# Altium schematic symbol library GC-Schlib1.SchLib: 38 symbols (part 2 of 2)
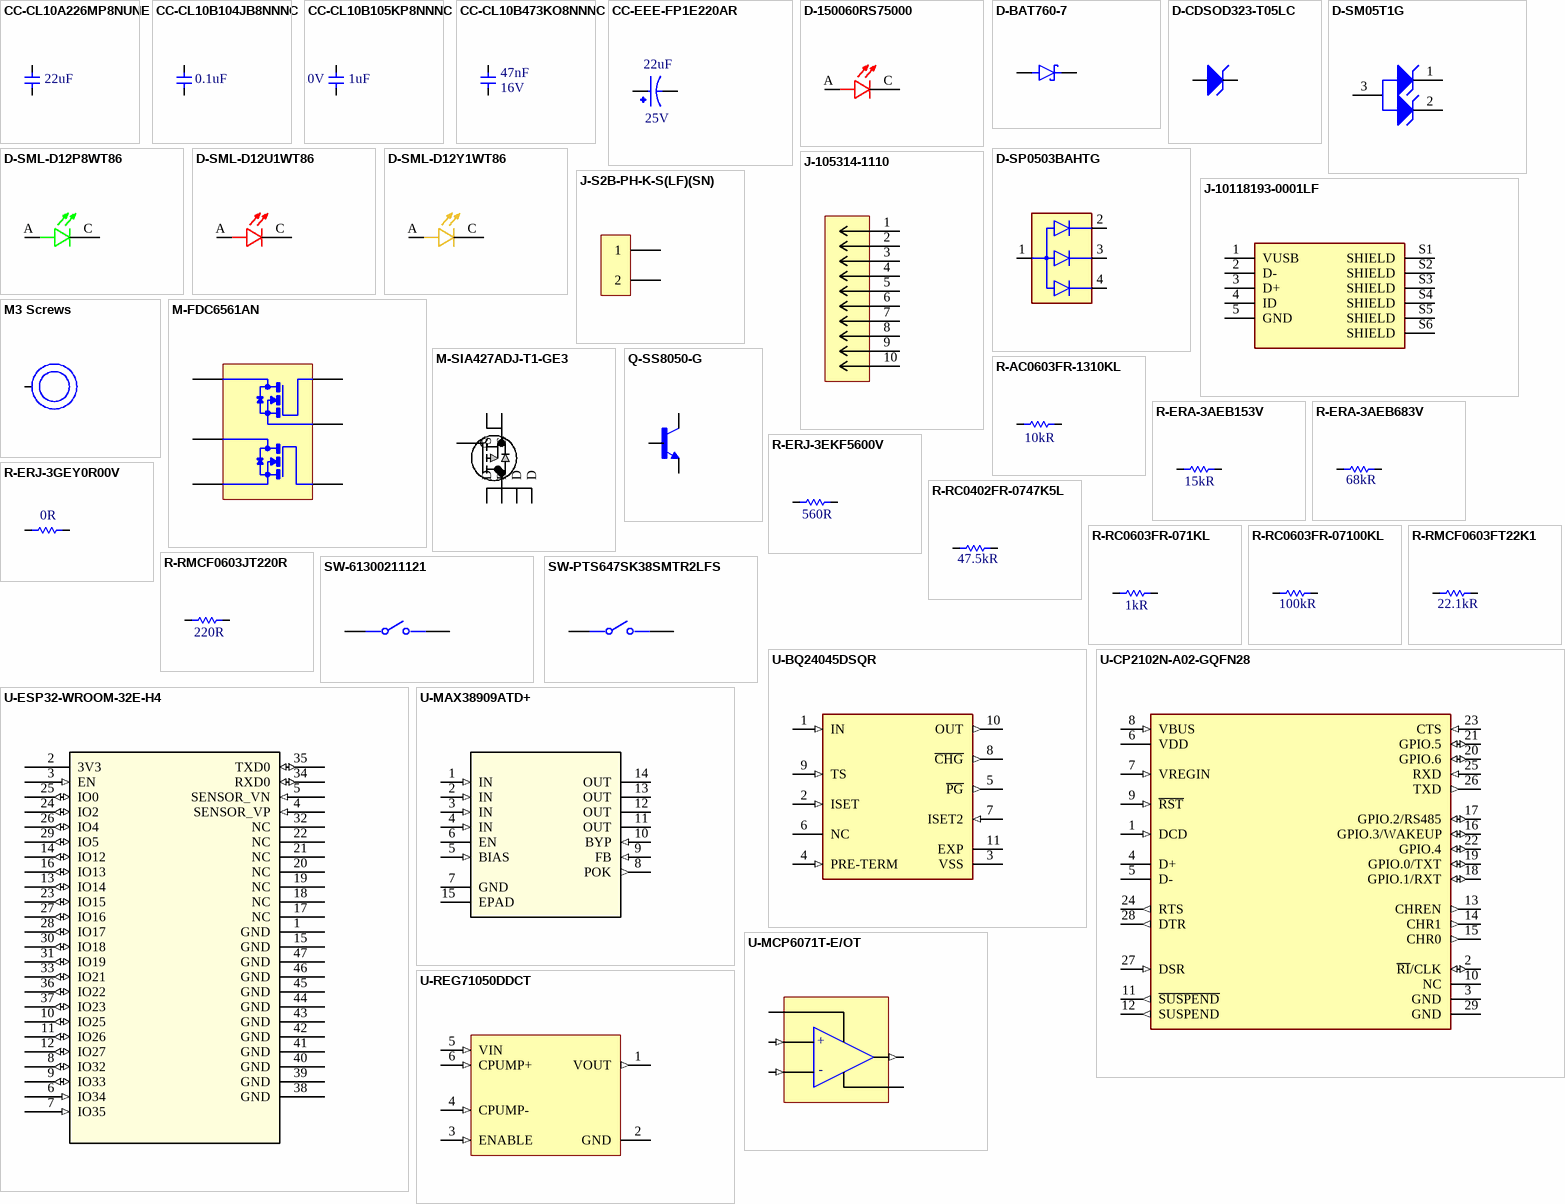
[diagram p1: symbols CC-CL10A226MP8NUNE to U-REG71050DDCT]

## R-ERA-3AEB153V
designator R?, comment Resistance: 15kR  (hidden comment: ERA-3AEB153V)
Fixed Resistor, Thin Film, 0.1W, 15000ohm, 75V, 0.1% +/-Tol, 25ppm/Cel, Surface Mount, 0603; Manufacturer: Panasonic; Rated Power Dissipation (P): 100mW; Rated Temperature: 85°C; Temperature Coefficient: 25ppm/°C; Package Height: 0.45mm; Package Length: 1.6mm; Package Width: 0.8mm; Reference Standard: AEC-Q200; Supplier 1: Mouser; Supplier Part Number 1: 667-ERA-3AEB153V; Manufacturer Part Number: ERA-3AEB153V; RoHS: Yes; Category: Chip SMD Resistors; Stock: 131542; Pricing: 1=0.31, 10=0.139, 50=0.139, 100=0.062, 1000=0.043, 10000=0.038 (USD); Mount: Surface Mount; Number of Pins: 2; Size Code: 0603; Terminal Finish: Nickel; Min Operating Temperature: -55°C; Max Operating Temperature: 155°C; Tolerance: 0.1%; JESD-609 Code: e3; Resistor Type: FIXED RESISTOR; Construction: Rectangular; Package Style: SMTMeter; Packaging: Tape and Reel; Technology: THIN FILM; Termination: Wraparound; Working Voltage: 75V; Reach SVHC Compliant: Yes; RoHS Compliant: Yes; ComponentLink1URL: https://datasheet.ciiva.com:443/pdfs/VipMasterIC/IC/PANA/PANA-S-A0009459258/PANA-S-A0009459258-1.pdf?src-supplier=IHS+Markit; ComponentLink1Description: https://datasheet.ciiva.com:443/pdfs/VipMasterIC/IC/PANA/PANA-S-A0009459258/PANA-S-A0009459258-1.pdf?src-supplier=IHS+Markit; ComponentLink2URL: https://datasheet.ciiva.com/11808/0900766b80fe20f7-11808023.pdf?src-supplier=Rs; ComponentLink2Description: https://datasheet.ciiva.com/11808/0900766b80fe20f7-11808023.pdf?src-supplier=Rs; ComponentLink3URL: https://datasheet.ciiva.com/29183/451305-da-01-en-widerstand-0603-era-29183818.pdf?src-supplier=Conrad; ComponentLink3Description: https://datasheet.ciiva.com/29183/451305-da-01-en-widerstand-0603-era-29183818.pdf?src-supplier=Conrad; ComponentLink4URL: https://datasheet.ciiva.com/46422/485442-46422566.pdf?src-supplier=Element14; ComponentLink4Description: https://datasheet.ciiva.com/46422/485442-46422566.pdf?src-supplier=Element14; ComponentLink5URL: https://datasheet.ciiva.com/6000/485442-6000508.pdf?src-supplier=Farnell; ComponentLink5Description: https://datasheet.ciiva.com/6000/485442-6000508.pdf?src-supplier=Farnell; ComponentLink6URL: https://datasheet.ciiva.com/46422/485442-46422567.pdf?src-supplier=Element14; ComponentLink6Description: https://datasheet.ciiva.com/46422/485442-46422567.pdf?src-supplier=Element14; ComponentLink7URL: https://datasheet.ciiva.com/5734/485442-5734541.pdf?src-supplier=Farnell; ComponentLink7Description: https://datasheet.ciiva.com/5734/485442-5734541.pdf?src-supplier=Farnell; ComponentLink8URL: https://datasheet.ciiva.com/28681/485442-28681528.pdf?src-supplier=Element14; ComponentLink8Description: https://datasheet.ciiva.com/28681/485442-28681528.pdf?src-supplier=Element14; ComponentLink9URL: https://datasheet.ciiva.com/16764/70068849-16764126.pdf?src-supplier=Allied+Electronics; ComponentLink9Description: https://datasheet.ciiva.com/16764/70068849-16764126.pdf?src-supplier=Allied+Electronics; ComponentLink10URL: https://datasheet.ciiva.com/9193/aoa0000ce26-9193070.pdf?src-supplier=Avnet; ComponentLink10Description: https://datasheet.ciiva.com/9193/aoa0000ce26-9193070.pdf?src-supplier=Avnet
footprint FP-1206-L_3_2_0_15-W_1_6-IPC_B
footprint FP-1206-L_3_2_0_15-W_1_6-MFG
footprint FP-1206-L_3_2_0_15-W_1_6-IPC_A
footprint FP-1206-L_3_2_0_15-W_1_6-IPC_C
footprint 0603 - R
pins: 1, 2

## R-ERA-3AEB683V
designator R?, comment Resistance: 68kR  (hidden comment: ERA-3AEB683V)
Fixed Resistor, Thin Film, 0.1W, 68000ohm, 75V, 0.1% +/-Tol, 25ppm/Cel, Surface Mount, 0603; Manufacturer: Panasonic; Rated Power Dissipation (P): 100mW; Rated Temperature: 85°C; Temperature Coefficient: 25ppm/°C; Package Height: 0.45mm; Package Length: 1.6mm; Package Width: 0.8mm; Reference Standard: AEC-Q200; Supplier 1: Mouser; Supplier Part Number 1: 667-ERA-3AEB683V; Manufacturer Part Number: ERA-3AEB683V; RoHS: Yes; Category: Chip SMD Resistors; Stock: 13636; Pricing: 1=0.32, 10=0.139, 50=0.139, 100=0.062, 1000=0.043, 10000=0.034 (USD); Mount: Surface Mount; Number of Pins: 2; Size Code: 0603; Terminal Finish: Nickel; Min Operating Temperature: -55°C; Max Operating Temperature: 155°C; Tolerance: 0.1%; JESD-609 Code: e3; Resistor Type: FIXED RESISTOR; Construction: Rectangular; Package Style: SMTMeter; Packaging: Tape and Reel; Technology: THIN FILM; Termination: Wraparound; Working Voltage: 75V; Reach SVHC Compliant: Yes; RoHS Compliant: Yes; ComponentLink1URL: https://datasheet.ciiva.com:443/pdfs/VipMasterIC/IC/PANA/PANA-S-A0009459258/PANA-S-A0009459258-1.pdf?src-supplier=IHS+Markit; ComponentLink1Description: https://datasheet.ciiva.com:443/pdfs/VipMasterIC/IC/PANA/PANA-S-A0009459258/PANA-S-A0009459258-1.pdf?src-supplier=IHS+Markit; ComponentLink2URL: https://datasheet.ciiva.com/11808/0900766b80fe20f7-11808073.pdf?src-supplier=Rs; ComponentLink2Description: https://datasheet.ciiva.com/11808/0900766b80fe20f7-11808073.pdf?src-supplier=Rs; ComponentLink3URL: https://datasheet.ciiva.com/29183/451591-da-01-en-widerstand-0603-era-29183858.pdf?src-supplier=Conrad; ComponentLink3Description: https://datasheet.ciiva.com/29183/451591-da-01-en-widerstand-0603-era-29183858.pdf?src-supplier=Conrad; ComponentLink4URL: https://datasheet.ciiva.com/43455/485442-43455241.pdf?src-supplier=Farnell; ComponentLink4Description: https://datasheet.ciiva.com/43455/485442-43455241.pdf?src-supplier=Farnell; ComponentLink5URL: https://datasheet.ciiva.com/46443/485442-46443725.pdf?src-supplier=Element14; ComponentLink5Description: https://datasheet.ciiva.com/46443/485442-46443725.pdf?src-supplier=Element14; ComponentLink6URL: https://datasheet.ciiva.com/6138/485442-6138684.pdf?src-supplier=Farnell; ComponentLink6Description: https://datasheet.ciiva.com/6138/485442-6138684.pdf?src-supplier=Farnell; ComponentLink7URL: https://datasheet.ciiva.com/46443/485442-46443726.pdf?src-supplier=Element14; ComponentLink7Description: https://datasheet.ciiva.com/46443/485442-46443726.pdf?src-supplier=Element14; ComponentLink8URL: https://datasheet.ciiva.com/48530/era-eng-tds-48530367.pdf?src-supplier=Distrelec; ComponentLink8Description: https://datasheet.ciiva.com/48530/era-eng-tds-48530367.pdf?src-supplier=Distrelec; ComponentLink9URL: https://datasheet.ciiva.com/48425/era-eng-tds-48425487.pdf?src-supplier=Distrelec; ComponentLink9Description: https://datasheet.ciiva.com/48425/era-eng-tds-48425487.pdf?src-supplier=Distrelec; ComponentLink10URL: https://datasheet.ciiva.com/7886/485442-7886603.pdf?src-supplier=Element14; ComponentLink10Description: https://datasheet.ciiva.com/7886/485442-7886603.pdf?src-supplier=Element14; ComponentLink11URL: https://datasheet.ciiva.com/6138/485442-6138681.pdf?src-supplier=Farnell; ComponentLink11Description: https://datasheet.ciiva.com/6138/485442-6138681.pdf?src-supplier=Farnell; ComponentLink12URL: https://datasheet.ciiva.com/22739/485442-22739292.pdf?src-supplier=Element14; ComponentLink12Description: https://datasheet.ciiva.com/22739/485442-22739292.pdf?src-supplier=Element14; ComponentLink13URL: https://datasheet.ciiva.com/16770/70068849-16770412.pdf?src-supplier=Allied+Electronics; ComponentLink13Description: https://datasheet.ciiva.com/16770/70068849-16770412.pdf?src-supplier=Allied+Electronics; ComponentLink14URL: https://datasheet.ciiva.com/9117/aoa0000ce26-9117752.pdf?src-supplier=Avnet; ComponentLink14Description: https://datasheet.ciiva.com/9117/aoa0000ce26-9117752.pdf?src-supplier=Avnet
footprint FP-1206-L_3_2_0_15-W_1_6-IPC_B
footprint FP-1206-L_3_2_0_15-W_1_6-MFG
footprint FP-1206-L_3_2_0_15-W_1_6-IPC_A
footprint FP-1206-L_3_2_0_15-W_1_6-IPC_C
footprint 0603 - R
pins: 1, 2

## R-ERJ-3EKF5600V
designator R?, comment Resistance: 560R  (hidden comment: ERJ-3EKF5600V)
Fixed Resistor, Metal Glaze/thick Film, 0.1W, 560ohm, 75V, 1% +/-Tol, 100ppm/Cel, Surface Mount, 0603; Manufacturer: Panasonic; Rated Power Dissipation (P): 100mW; Rated Temperature: 70°C; Temperature Coefficient: 100ppm/°C; Package Height: 0.45mm; Package Length: 1.6mm; Package Width: 0.8mm; Reference Standard: AEC-Q200; Supplier 1: Mouser; Supplier Part Number 1: 667-ERJ-3EKF5600V; Manufacturer Part Number: ERJ-3EKF5600V; RoHS: Yes; Category: Chip SMD Resistors; Stock: 63183; Pricing: 1=0.1, 10=0.024, 50=0.024, 100=0.011, 1000=0.008, 10000=0.005 (USD); Mount: Surface Mount; Number of Pins: 2; Package Shape: Rectangular; Size Code: 0603; Terminal Finish: Nickel; Min Operating Temperature: -55°C; Max Operating Temperature: 155°C; Tolerance: 1%; JESD-609 Code: e3; Resistor Type: FIXED RESISTOR; Construction: Rectangular; Package Style: SMTMeter; Packaging: Tape and Reel; Technology: METAL GLAZE/THICK FILM; Termination: Wraparound; Working Voltage: 75V; Reach SVHC Compliant: Yes; RoHS Compliant: Yes; ComponentLink1URL: https://datasheet.ciiva.com:443/pdfs/VipMasterIC/IC/PANA/PANA-S-A0009889626/PANA-S-A0009889626-1.pdf?src-supplier=IHS+Markit; ComponentLink1Description: https://datasheet.ciiva.com:443/pdfs/VipMasterIC/IC/PANA/PANA-S-A0009889626/PANA-S-A0009889626-1.pdf?src-supplier=IHS+Markit; ComponentLink2URL: https://datasheet.ciiva.com/3883/3984280s8821682n1386-3883650.pdf?src-supplier=Arrow+Electronics; ComponentLink2Description: https://datasheet.ciiva.com/3883/3984280s8821682n1386-3883650.pdf?src-supplier=Arrow+Electronics; ComponentLink3URL: https://datasheet.ciiva.com/5860/aoa0000ce2-5860665.pdf?src-supplier=Farnell; ComponentLink3Description: https://datasheet.ciiva.com/5860/aoa0000ce2-5860665.pdf?src-supplier=Farnell; ComponentLink4URL: https://datasheet.ciiva.com/7909/aoa0000ce2-7909198.pdf?src-supplier=Element14; ComponentLink4Description: https://datasheet.ciiva.com/7909/aoa0000ce2-7909198.pdf?src-supplier=Element14; ComponentLink5URL: https://datasheet.ciiva.com/46381/1678782-46381547.pdf?src-supplier=Element14; ComponentLink5Description: https://datasheet.ciiva.com/46381/1678782-46381547.pdf?src-supplier=Element14; ComponentLink6URL: https://datasheet.ciiva.com/22674/1678782-22674427.pdf?src-supplier=Element14; ComponentLink6Description: https://datasheet.ciiva.com/22674/1678782-22674427.pdf?src-supplier=Element14; ComponentLink7URL: https://datasheet.ciiva.com/22737/426256-22737578.pdf?src-supplier=Element14; ComponentLink7Description: https://datasheet.ciiva.com/22737/426256-22737578.pdf?src-supplier=Element14; ComponentLink8URL: https://datasheet.ciiva.com/28590/1678782-28590766.pdf?src-supplier=Element14; ComponentLink8Description: https://datasheet.ciiva.com/28590/1678782-28590766.pdf?src-supplier=Element14; ComponentLink9URL: https://datasheet.ciiva.com/46381/1678782-46381548.pdf?src-supplier=Element14; ComponentLink9Description: https://datasheet.ciiva.com/46381/1678782-46381548.pdf?src-supplier=Element14; ComponentLink10URL: https://datasheet.ciiva.com/24124/aoa0000ce2-24124277.pdf?src-supplier=Mouser; ComponentLink10Description: https://datasheet.ciiva.com/24124/aoa0000ce2-24124277.pdf?src-supplier=Mouser; ComponentLink11URL: https://datasheet.ciiva.com/16763/70260748-16763150.pdf?src-supplier=Allied+Electronics; ComponentLink11Description: https://datasheet.ciiva.com/16763/70260748-16763150.pdf?src-supplier=Allied+Electronics; ComponentLink12URL: https://datasheet.ciiva.com/16781/70260748-16781128.pdf?src-supplier=Allied+Electronics; ComponentLink12Description: https://datasheet.ciiva.com/16781/70260748-16781128.pdf?src-supplier=Allied+Electronics; ComponentLink13URL: https://datasheet.ciiva.com/9117/aoa0000ce2-9117192.pdf?src-supplier=Avnet; ComponentLink13Description: https://datasheet.ciiva.com/9117/aoa0000ce2-9117192.pdf?src-supplier=Avnet
footprint FP-1206-L_3_2_0_15-W_1_6-IPC_B
footprint FP-1206-L_3_2_0_15-W_1_6-MFG
footprint FP-1206-L_3_2_0_15-W_1_6-IPC_A
footprint FP-1206-L_3_2_0_15-W_1_6-IPC_C
footprint 0603 - R
pins: 1, 2

## R-ERJ-3GEY0R00V
designator R?, comment Resistance: 0R  (hidden comment: ERJ-3GEY0R00V)
Fixed Resistor, Metal Glaze/thick Film, 0.1W, 0ohm, Surface Mount, 0603; Manufacturer: Panasonic; Rated Power Dissipation (P): 100mW; Rated Temperature: 70°C; Package Height: 0.45mm; Package Length: 1.6mm; Package Width: 0.8mm; Reference Standard: AEC-Q200; Supplier 1: Mouser; Supplier Part Number 1: 667-ERJ-3GEY0R00V; Manufacturer Part Number: ERJ-3GEY0R00V; RoHS: Yes; Category: Chip SMD Resistors; Stock: 7345218; Pricing: 1=0.1, 10=0.021, 50=0.021, 100=0.01, 1000=0.007, 10000=0.004 (USD); Mount: Surface Mount; Number of Pins: 2; Package Shape: Rectangular; Size Code: 0603; Terminal Finish: Nickel; Min Operating Temperature: -55°C; Max Operating Temperature: 155°C; JESD-609 Code: e3; Resistor Type: FIXED RESISTOR; Construction: Rectangular; Package Style: SMTMeter; Packaging: Tape and Reel; Technology: METAL GLAZE/THICK FILM; Termination: Wraparound; Reach SVHC Compliant: Yes; RoHS Compliant: Yes; ComponentLink1URL: https://datasheet.ciiva.com:443/pdfs/VipMasterIC/IC/PANA/PANA-S-A0009459603/PANA-S-A0009459603-1.pdf?src-supplier=IHS+Markit; ComponentLink1Description: https://datasheet.ciiva.com:443/pdfs/VipMasterIC/IC/PANA/PANA-S-A0009459603/PANA-S-A0009459603-1.pdf?src-supplier=IHS+Markit; ComponentLink2URL: https://datasheet.ciiva.com/27055/1935748-27055113.pdf?src-supplier=Jameco; ComponentLink2Description: https://datasheet.ciiva.com/27055/1935748-27055113.pdf?src-supplier=Jameco; ComponentLink3URL: https://datasheet.ciiva.com/11808/0900766b80f806dd-11808207.pdf?src-supplier=Rs; ComponentLink3Description: https://datasheet.ciiva.com/11808/0900766b80f806dd-11808207.pdf?src-supplier=Rs; ComponentLink4URL: https://datasheet.ciiva.com/48532/aoa0000ce1-48532165.pdf?src-supplier=Avnet; ComponentLink4Description: https://datasheet.ciiva.com/48532/aoa0000ce1-48532165.pdf?src-supplier=Avnet; ComponentLink5URL: https://datasheet.ciiva.com/43460/1678796-43460647.pdf?src-supplier=Farnell; ComponentLink5Description: https://datasheet.ciiva.com/43460/1678796-43460647.pdf?src-supplier=Farnell; ComponentLink6URL: https://datasheet.ciiva.com/5959/1678796-5959707.pdf?src-supplier=Farnell; ComponentLink6Description: https://datasheet.ciiva.com/5959/1678796-5959707.pdf?src-supplier=Farnell; ComponentLink7URL: https://datasheet.ciiva.com/46377/1678796-46377868.pdf?src-supplier=Element14; ComponentLink7Description: https://datasheet.ciiva.com/46377/1678796-46377868.pdf?src-supplier=Element14; ComponentLink8URL: https://datasheet.ciiva.com/28695/1678796-28695833.pdf?src-supplier=Element14; ComponentLink8Description: https://datasheet.ciiva.com/28695/1678796-28695833.pdf?src-supplier=Element14; ComponentLink9URL: https://datasheet.ciiva.com/16758/70255313-16758527.pdf?src-supplier=Allied+Electronics; ComponentLink9Description: https://datasheet.ciiva.com/16758/70255313-16758527.pdf?src-supplier=Allied+Electronics; ComponentLink10URL: https://datasheet.ciiva.com/9198/aoa0000ce1-9198975.pdf?src-supplier=Avnet; ComponentLink10Description: https://datasheet.ciiva.com/9198/aoa0000ce1-9198975.pdf?src-supplier=Avnet; ComponentLink11URL: https://datasheet.ciiva.com/16834/aoa0000ce1-16834828.pdf?src-supplier=Future+Electronics; ComponentLink11Description: https://datasheet.ciiva.com/16834/aoa0000ce1-16834828.pdf?src-supplier=Future+Electronics; ComponentLink12URL: https://datasheet.ciiva.com/30199/4aoa0000ce1-30199822.pdf?src-supplier=Onlinecomponents.com; ComponentLink12Description: https://datasheet.ciiva.com/30199/4aoa0000ce1-30199822.pdf?src-supplier=Onlinecomponents.com
footprint FP-1206-L_3_2_0_15-W_1_6-IPC_B
footprint FP-1206-L_3_2_0_15-W_1_6-MFG
footprint FP-1206-L_3_2_0_15-W_1_6-IPC_A
footprint FP-1206-L_3_2_0_15-W_1_6-IPC_C
footprint 0603 - R
pins: 1, 2

## R-RC0402FR-0747K5L
designator R?, comment Resistance: 47.5kR  (hidden comment: RC0402FR-0747K5L)
Fixed Resistor, Metal Glaze/thick Film, 0.0625W, 47500ohm, 50V, 1% +/-Tol, 100ppm/Cel, Surface Mount, 0402; Manufacturer: Yageo; Additional Feature: LASER TRIMMABLE; Rated Power Dissipation (P): 62.5mW; Rated Temperature: 70°C; Temperature Coefficient: 100ppm/°C; Package Height: 0.35mm; Package Length: 1mm; Package Width: 0.5mm; Supplier 1: Future Electronics; Supplier Part Number 1: 1462183; Manufacturer Part Number: RC0402FR-0747K5L; RoHS: Yes; Category: Chip SMD Resistors; Stock: 1410000; Pricing: 10000=0.0012, 100000=0.0011, 300000=0.001, 750000=0.001, 2000000=0.0009 (USD); Mount: Surface Mount; Number of Pins: 2; Package Shape: Rectangular; Size Code: 0402; Terminal Finish: Nickel; Min Operating Temperature: -55°C; Max Operating Temperature: 155°C; Tolerance: 1%; JESD-609 Code: e3; Resistor Type: FIXED RESISTOR; Construction: Chip; Package Style: SMTMeter; Packaging: Tape and Reel; Technology: METAL GLAZE/THICK FILM; Termination: Wraparound; Working Voltage: 50V; Reach SVHC Compliant: Yes; RoHS Compliant: Yes; ComponentLink1URL: https://datasheet.ciiva.com:443/pdfs/VipMasterIC/IC/YAGO/YAGO-S-A0008145938/YAGO-S-A0008145938-1.pdf?src-supplier=IHS+Markit; ComponentLink1Description: https://datasheet.ciiva.com:443/pdfs/VipMasterIC/IC/YAGO/YAGO-S-A0008145938/YAGO-S-A0008145938-1.pdf?src-supplier=IHS+Markit; ComponentLink2URL: https://datasheet.ciiva.com/46394/1018594-46394942.pdf?src-supplier=Element14; ComponentLink2Description: https://datasheet.ciiva.com/46394/1018594-46394942.pdf?src-supplier=Element14; ComponentLink3URL: https://datasheet.ciiva.com/12667/pyu-rc0402-51-rohs-l-6-r-12667103.pdf?src-supplier=Mouser; ComponentLink3Description: https://datasheet.ciiva.com/12667/pyu-rc0402-51-rohs-l-6-r-12667103.pdf?src-supplier=Mouser; ComponentLink4URL: https://datasheet.ciiva.com/16746/pyu-rc0402-51-rohs-l-6-r-16746316.pdf?src-supplier=Future+Electronics; ComponentLink4Description: https://datasheet.ciiva.com/16746/pyu-rc0402-51-rohs-l-6-r-16746316.pdf?src-supplier=Future+Electronics
footprint FP-1206-L_3_2_0_15-W_1_6-IPC_B
footprint FP-1206-L_3_2_0_15-W_1_6-MFG
footprint FP-1206-L_3_2_0_15-W_1_6-IPC_A
footprint FP-1206-L_3_2_0_15-W_1_6-IPC_C
footprint 0603 - R
pins: 1, 2

## R-RC0603FR-071KL
designator R?, comment Resistance: 1kR  (hidden comment: RC0603FR-071KL)
Fixed Resistor, Metal Glaze/thick Film, 0.1W, 1000ohm, 75V, 1% +/-Tol, 100ppm/Cel, Surface Mount, 0603; Manufacturer: Yageo; Additional Feature: LASER TRIMMABLE; Rated Power Dissipation (P): 100mW; Rated Temperature: 70°C; Temperature Coefficient: 100ppm/°C; Package Height: 0.45mm; Package Length: 1.6mm; Package Width: 0.8mm; Supplier 1: Future Electronics; Supplier Part Number 1: 4016291; Manufacturer Part Number: RC0603FR-071KL; RoHS: Yes; Category: Chip SMD Resistors; Stock: 4965000; Pricing: 5000=0.0015, 75000=0.0015, 250000=0.0014, 750000=0.0013, 2500000=0.0012 (USD); Mount: Surface Mount; Number of Pins: 2; Package Shape: Rectangular; Size Code: 0603; Terminal Finish: Nickel; Min Operating Temperature: -55°C; Max Operating Temperature: 155°C; Tolerance: 1%; JESD-609 Code: e3; Resistor Type: FIXED RESISTOR; Construction: Chip; Package Style: SMTMeter; Packaging: Tape and Reel; Technology: METAL GLAZE/THICK FILM; Termination: Wraparound; Working Voltage: 75V; Reach SVHC Compliant: Yes; RoHS Compliant: Yes; ComponentLink1URL: https://datasheet.ciiva.com:443/pdfs/VipMasterIC/IC/YAGO/YAGO-S-A0008145938/YAGO-S-A0008145938-1.pdf?src-supplier=IHS+Markit; ComponentLink1Description: https://datasheet.ciiva.com:443/pdfs/VipMasterIC/IC/YAGO/YAGO-S-A0008145938/YAGO-S-A0008145938-1.pdf?src-supplier=IHS+Markit; ComponentLink2URL: https://datasheet.ciiva.com/11808/0900766b80f96399-11808081.pdf?src-supplier=Rs; ComponentLink2Description: https://datasheet.ciiva.com/11808/0900766b80f96399-11808081.pdf?src-supplier=Rs; ComponentLink3URL: https://datasheet.ciiva.com/7746/1686128-7746280.pdf?src-supplier=Element14; ComponentLink3Description: https://datasheet.ciiva.com/7746/1686128-7746280.pdf?src-supplier=Element14; ComponentLink4URL: https://datasheet.ciiva.com/7660/1868787-7660790.pdf?src-supplier=Element14; ComponentLink4Description: https://datasheet.ciiva.com/7660/1868787-7660790.pdf?src-supplier=Element14; ComponentLink5URL: https://datasheet.ciiva.com/7983/443971-7983613.pdf?src-supplier=Element14; ComponentLink5Description: https://datasheet.ciiva.com/7983/443971-7983613.pdf?src-supplier=Element14; ComponentLink6URL: https://datasheet.ciiva.com/7746/1738695-7746281.pdf?src-supplier=Element14; ComponentLink6Description: https://datasheet.ciiva.com/7746/1738695-7746281.pdf?src-supplier=Element14; ComponentLink7URL: https://datasheet.ciiva.com/7746/1738695-7746279.pdf?src-supplier=Element14; ComponentLink7Description: https://datasheet.ciiva.com/7746/1738695-7746279.pdf?src-supplier=Element14; ComponentLink8URL: https://datasheet.ciiva.com/8896/pyu-rc0603-51-rohs-l-4-8896106.pdf?src-supplier=Avnet; ComponentLink8Description: https://datasheet.ciiva.com/8896/pyu-rc0603-51-rohs-l-4-8896106.pdf?src-supplier=Avnet; ComponentLink9URL: https://datasheet.ciiva.com/15189/getdatasheetpartid-404327-15189644.pdf?src-supplier=Verical; ComponentLink9Description: https://datasheet.ciiva.com/15189/getdatasheetpartid-404327-15189644.pdf?src-supplier=Verical
footprint 0603 - R
pins: 1, 2

## R-RC0603FR-07100KL
designator R?, comment Resistance: 100kR  (hidden comment: RC0603FR-07100KL)
Fixed Resistor, Metal Glaze/thick Film, 0.1W, 100000ohm, 75V, 1% +/-Tol, 100ppm/Cel, Surface Mount, 0603; Manufacturer: Yageo; Additional Feature: LASER TRIMMABLE; Rated Power Dissipation (P): 100mW; Rated Temperature: 70°C; Temperature Coefficient: 100ppm/°C; Package Height: 0.45mm; Package Length: 1.6mm; Package Width: 0.8mm; Supplier 1: Future Electronics; Supplier Part Number 1: 3697448; Manufacturer Part Number: RC0603FR-07100KL; RoHS: Yes; Category: Chip SMD Resistors; Stock: 10630000; Pricing: 5000=0.0015, 75000=0.0015, 250000=0.0014, 750000=0.0013, 2500000=0.0012 (USD); Mount: Surface Mount; Number of Pins: 2; Package Shape: Rectangular; Size Code: 0603; Terminal Finish: Nickel; Min Operating Temperature: -55°C; Max Operating Temperature: 155°C; Tolerance: 1%; JESD-609 Code: e3; Resistor Type: FIXED RESISTOR; Construction: Chip; Package Style: SMTMeter; Packaging: Tape and Reel; Technology: METAL GLAZE/THICK FILM; Termination: Wraparound; Working Voltage: 75V; Reach SVHC Compliant: Yes; RoHS Compliant: Yes; ComponentLink1URL: https://datasheet.ciiva.com:443/pdfs/VipMasterIC/IC/YAGO/YAGO-S-A0008145938/YAGO-S-A0008145938-1.pdf?src-supplier=IHS+Markit; ComponentLink1Description: https://datasheet.ciiva.com:443/pdfs/VipMasterIC/IC/YAGO/YAGO-S-A0008145938/YAGO-S-A0008145938-1.pdf?src-supplier=IHS+Markit; ComponentLink2URL: https://datasheet.ciiva.com/11808/0900766b80f96399-11808107.pdf?src-supplier=Rs; ComponentLink2Description: https://datasheet.ciiva.com/11808/0900766b80f96399-11808107.pdf?src-supplier=Rs; ComponentLink3URL: https://datasheet.ciiva.com/7983/443971-7983593.pdf?src-supplier=Element14; ComponentLink3Description: https://datasheet.ciiva.com/7983/443971-7983593.pdf?src-supplier=Element14; ComponentLink4URL: https://datasheet.ciiva.com/22747/443971-22747516.pdf?src-supplier=Element14; ComponentLink4Description: https://datasheet.ciiva.com/22747/443971-22747516.pdf?src-supplier=Element14; ComponentLink5URL: https://datasheet.ciiva.com/46440/1868787-46440889.pdf?src-supplier=Element14; ComponentLink5Description: https://datasheet.ciiva.com/46440/1868787-46440889.pdf?src-supplier=Element14; ComponentLink6URL: https://datasheet.ciiva.com/7746/1738695-7746235.pdf?src-supplier=Element14; ComponentLink6Description: https://datasheet.ciiva.com/7746/1738695-7746235.pdf?src-supplier=Element14; ComponentLink7URL: https://datasheet.ciiva.com/7746/1738695-7746234.pdf?src-supplier=Element14; ComponentLink7Description: https://datasheet.ciiva.com/7746/1738695-7746234.pdf?src-supplier=Element14
footprint FP-1206-L_3_2_0_15-W_1_6-IPC_B
footprint FP-1206-L_3_2_0_15-W_1_6-MFG
footprint FP-1206-L_3_2_0_15-W_1_6-IPC_A
footprint FP-1206-L_3_2_0_15-W_1_6-IPC_C
footprint 0603 - R
pins: 1, 2

## R-RMCF0603FT22K1
designator R?, comment Resistance: 22.1kR  (hidden comment: RMCF0603FT22K1)
Fixed Resistor, Metal Glaze/thick Film, 0.1W, 22100ohm, 75V, 1% +/-Tol, 100ppm/Cel, Surface Mount, 0603; Manufacturer: Stackpole Electronics; Rated Power Dissipation (P): 100mW; Rated Temperature: 70°C; Temperature Coefficient: 100ppm/°C; Package Height: 0.45mm; Package Length: 1.55mm; Package Width: 0.8mm; Reference Standard: AEC-Q200; Supplier 1: Digikey; Supplier Part Number 1: RMCF0603FT22K1CT-ND; Manufacturer Part Number: RMCF0603FT22K1; RoHS: Yes; Category: Chip SMD Resistors; Stock: 1223163; Pricing: 1=0.1, 10=0.015, 50=0.009, 100=0.0075, 500=0.00498, 1000=0.00425 (USD); Mount: Surface Mount; Number of Pins: 2; Package Shape: Rectangular; Size Code: 0603; Terminal Finish: Nickel; Min Operating Temperature: -55°C; Max Operating Temperature: 155°C; Tolerance: 1%; JESD-609 Code: e3; Resistor Type: FIXED RESISTOR; Construction: Rectangular; Package Style: SMTMeter; Packaging: Tape and Reel; Technology: METAL GLAZE/THICK FILM; Termination: Wraparound; Working Voltage: 75V; Reach SVHC Compliant: Yes; RoHS Compliant: Yes; ComponentLink1URL: https://datasheet.ciiva.com:443/pdfs/VipMasterIC/IC/SEIE/SEIE-S-A0009541969/SEIE-S-A0009541969-1.pdf?src-supplier=IHS+Markit; ComponentLink1Description: https://datasheet.ciiva.com:443/pdfs/VipMasterIC/IC/SEIE/SEIE-S-A0009541969/SEIE-S-A0009541969-1.pdf?src-supplier=IHS+Markit; ComponentLink2URL: http://components.arrow.com/part/dataview/40960961S7171997N1174?src-supplier=Arrow+Electronics; ComponentLink2Description: http://components.arrow.com/part/dataview/40960961S7171997N1174?src-supplier=Arrow+Electronics; ComponentLink3URL: https://datasheet.octopart.com/RMCF0603FT22K1-Stackpole-Electronics-datasheet-11547379.pdf?src-supplier=Future+Electronics; ComponentLink3Description: https://datasheet.octopart.com/RMCF0603FT22K1-Stackpole-Electronics-datasheet-11547379.pdf?src-supplier=Future+Electronics; ComponentLink4URL: https://www.seielect.com/catalog/SEI-RMCF_RMCP.pdf?src-supplier=Avnet; ComponentLink4Description: https://www.seielect.com/catalog/SEI-RMCF_RMCP.pdf?src-supplier=Avnet; ComponentLink5URL: http://www.seielect.com/Catalog/SEI-RMC.pdf?src-supplier=Future+Electronics; ComponentLink5Description: http://www.seielect.com/Catalog/SEI-RMC.pdf?src-supplier=Future+Electronics; ComponentLink6URL: https://www.verical.com/server-webapp/html/getDatasheet?partID=375344&src-supplier=Verical; ComponentLink6Description: https://www.verical.com/server-webapp/html/getDatasheet?partID=375344&src-supplier=Verical; ComponentLink7URL: https://www.seielect.com/catalog/SEI-Packaging.pdf?src-supplier=Digikey; ComponentLink7Description: https://www.seielect.com/catalog/SEI-Packaging.pdf?src-supplier=Digikey; ComponentLink8URL: https://www.seielect.com/Catalog/SEI-RMCF_RMCP.pdf?src-supplier=Digikey; ComponentLink8Description: https://www.seielect.com/Catalog/SEI-RMCF_RMCP.pdf?src-supplier=Digikey
footprint FP-1206-L_3_2_0_15-W_1_6-IPC_B
footprint FP-1206-L_3_2_0_15-W_1_6-MFG
footprint FP-1206-L_3_2_0_15-W_1_6-IPC_A
footprint FP-1206-L_3_2_0_15-W_1_6-IPC_C
footprint 0603 - R
pins: 1, 2

## R-RMCF0603JT220R
designator R?  Resistance: 220R  (hidden comment: R-RMCF0603JT220R)
Fixed Resistor, Metal Glaze/thick Film, 0.1W, 220ohm, 75V, 5% +/-Tol, 200ppm/Cel, Surface Mount, 0603; Manufacturer: Stackpole Electronics; Rated Power Dissipation (P): 100mW; Rated Temperature: 70°C; Temperature Coefficient: 200ppm/°C; Package Height: 0.45mm; Package Length: 1.55mm; Package Width: 0.8mm; Reference Standard: AEC-Q200; Supplier 1: Avnet; Supplier Part Number 1: RMCF0603JT220R; Manufacturer Part Number: RMCF0603JT220R; RoHS: Yes; Category: Chip SMD Resistors; Stock: 5000; Pricing: 5000=0.00126, 10000=0.00124, 20000=0.00122, 30000=0.00121, 40000=0.00119, 50000=0.00117, 500000=0.00115 (USD); Mount: Surface Mount; Number of Pins: 2; Package Shape: Rectangular; Size Code: 0603; Terminal Finish: Nickel; Min Operating Temperature: -55°C; Max Operating Temperature: 155°C; Tolerance: 5%; JESD-609 Code: e3; Resistor Type: FIXED RESISTOR; Construction: Rectangular; Package Style: SMTMeter; Packaging: Tape and Reel; Technology: METAL GLAZE/THICK FILM; Termination: Wraparound; Working Voltage: 75V; Reach SVHC Compliant: Yes; RoHS Compliant: Yes; ComponentLink1URL: https://datasheet.ciiva.com:443/pdfs/VipMasterIC/IC/SEIE/SEIE-S-A0009541969/SEIE-S-A0009541969-1.pdf?src-supplier=IHS+Markit; ComponentLink1Description: https://datasheet.ciiva.com:443/pdfs/VipMasterIC/IC/SEIE/SEIE-S-A0009541969/SEIE-S-A0009541969-1.pdf?src-supplier=IHS+Markit; ComponentLink2URL: https://datasheet.ciiva.com/26835/getdatasheetpartid-362043-26835658.pdf?src-supplier=Verical; ComponentLink2Description: https://datasheet.ciiva.com/26835/getdatasheetpartid-362043-26835658.pdf?src-supplier=Verical
footprint FP-1206-L_3_2_0_15-W_1_6-IPC_B
footprint FP-1206-L_3_2_0_15-W_1_6-MFG
footprint FP-1206-L_3_2_0_15-W_1_6-IPC_A
footprint FP-1206-L_3_2_0_15-W_1_6-IPC_C
footprint 0603 - R
pins: 1, 2

## SW-61300211121
designator SW?  (value not drawn)
Board Connector, 2 Contact(s), 1 Row(s), Male, Straight, 0.1 inch Pitch, Solder Terminal, Locking, Black Insulator, Plug; Manufacturer: Wurth Electronics; Option: General Purpose; Contact Pattern: RECTANGULAR; Contact Resistance: 20mR; Contact Style: SQ PIN-SKT; Dielectric Withstanding Voltage (AC): 500V; Filter Feature: No; Insulation Resistance: 1GR; Number Of Connectors: 1; Rated Current (Signal): 3A; Number of Contacts: 2; Body Length: 0.2inch; Reference Standard: UL; Reliability: COMMERCIAL; Supplier 1: Newark; Supplier Part Number 1: 20X0948; Manufacturer Part Number: 61300211121; RoHS: Yes; Category: Headers and Wire Housings; Stock: 158075; Pricing: 100=0.074 (USD); Mount: Board; Contact Material: Copper Alloy; Contact Finish - Mating: GOLD; Contact Finish - Termination: Gold (Au) - with Nickel (Ni) barrier; Insulation Color: Black; Insulation Material: Polybutylene; Min Operating Temperature: -40°C; Max Operating Temperature: 125°C; Connector Type: BOARD CONNECTOR; JESD-609 Code: e4; Body/Shell Style: PLUG; Contact Gender: Male; Mixed Contacts: No; Mounting Style: STRAIGHT; Number of Rows Loaded: 1; PCB Contact Pattern: RECTANGULAR; Termination: Solder; Body Breadth: 0.1inch; Body Depth: 0.1inch; Mating Contact Pitch: 0.1inch; Mounting Option 1: LOCKING; Terminal Length: 0.118inch; Terminal Pitch: 2.54mm; Flammability Rating: UL94 V-0; Reach SVHC Compliant: Yes; RoHS Compliant: Yes; DIN Conformance: No; IEC Conformance: No; MIL Conformance: No; ComponentLink1URL: https://datasheet.ciiva.com:443/pdfs/VipMasterIC/IC/MIDC/MIDCS07676/MIDCS07676-1.pdf?src-supplier=IHS+Markit; ComponentLink1Description: https://datasheet.ciiva.com:443/pdfs/VipMasterIC/IC/MIDC/MIDCS07676/MIDCS07676-1.pdf?src-supplier=IHS+Markit; ComponentLink2URL: https://datasheet.ciiva.com/13619/6130xx11121-48870-13619345.pdf?src-supplier=Mouser; ComponentLink2Description: https://datasheet.ciiva.com/13619/6130xx11121-48870-13619345.pdf?src-supplier=Mouser
footprint FP-1206-L_3_2_0_15-W_1_6-IPC_B
footprint FP-1206-L_3_2_0_15-W_1_6-MFG
footprint FP-1206-L_3_2_0_15-W_1_6-IPC_A
footprint FP-1206-L_3_2_0_15-W_1_6-IPC_C
footprint 2 Pin Through Hole - Pitch 2.54 mm
pins: 1, 2

## SW-PTS647SK38SMTR2LFS
designator SW?  (value not drawn)
Keypad Switch, 1 Switches, SPST, Momentary-tactile, 0.05A, 12VDC, 2.94N, Solder Terminal, Surface Mount-straight; Manufacturer: ITT C&K; Supplier 1: Digikey; Supplier Part Number 1: PTS647SK38SMTR2LFSCT-ND; Manufacturer Part Number: PTS647SK38SMTR2LFS; RoHS: No; Category: Tactile Switches; Stock: 45290; Pricing: 1=0.26, 10=0.249, 25=0.236, 100=0.2138, 250=0.19488, 500=0.18114, 1000=0.15453 (USD); RoHS Compliant: Yes; ComponentLink1URL: https://www.ckswitches.com/media/2567/pts647.pdf?src-supplier=Digikey; ComponentLink1Description: https://www.ckswitches.com/media/2567/pts647.pdf?src-supplier=Digikey
footprint FP-1206-L_3_2_0_15-W_1_6-IPC_B
footprint FP-1206-L_3_2_0_15-W_1_6-MFG
footprint FP-1206-L_3_2_0_15-W_1_6-IPC_A
footprint FP-1206-L_3_2_0_15-W_1_6-IPC_C
footprint FP-PTS647SK38SMTR2LFS-MFG
footprint 2 Pin Through Hole - Pitch 2.54 mm
pins: 1, 2

## U-BQ24045DSQR
designator U?, comment BQ24045DSQR
Power Supply Support Circuit, Adjustable, 1 Channel, 6.65, PDSO10; Manufacturer: Texas Instruments; Package Body Material: Plastic; Adjustable Threshold: Yes; Number of Channels: 1; Power Supplies: 5V; Supply Current-Max (Isup): 1A; Supply Voltage-Max (Vsup): 28V; Supply Voltage-Min (Vsup): 3.5V; Qualification Status: Not Qualified; Supplier 1: Mouser; Supplier Part Number 1: 595-BQ24045DSQR; Manufacturer Part Number: BQ24045DSQR; RoHS: Yes; Category: Battery Management; Stock: 6811; Pricing: 1=1.05, 10=0.926, 50=0.926, 100=0.768, 1000=0.563, 10000=0.452 (USD); Package Code: HVSON; Number of Pins: 10; Package Shape: Square; Terminal Finish: Nickel; JESD-609 Code: e4; Analog IC - Other Type: POWER SUPPLY SUPPORT CIRCUIT; JESD-30 Code: S-PDSO-N10; Moisture Sensitivity Level: 2; Number of Functions: 1; Package Style: SMALL OUTLINE, HEAT SINK/SLUG, VERY THIN PROFILEMeter; Peak Reflow Temperature (Cel): 260°C; Supply Voltage-Nom (Vsup): 5V; Surface Mount: Yes; Terminal Form: No Lead; Terminal Position: DUAL; Length: 2mm; Width: 2mm; Height - Seated (Max): 0.8mm; Terminal Pitch: 0.4mm; Reach SVHC Compliant: Yes; RoHS Compliant: Yes; ComponentLink1URL: https://www.ti.com:443/lit/ds/symlink/bq24040.pdf?src-supplier=IHS+Markit; ComponentLink1Description: https://www.ti.com:443/lit/ds/symlink/bq24040.pdf?src-supplier=IHS+Markit; ComponentLink2URL: https://datasheet.ciiva.com/15367/slus941e-317338-15367177.pdf?src-supplier=Mouser; ComponentLink2Description: https://datasheet.ciiva.com/15367/slus941e-317338-15367177.pdf?src-supplier=Mouser; ComponentLink3URL: https://datasheet.ciiva.com/15047/bq24045-15047702.pdf?src-supplier=Digikey; ComponentLink3Description: https://datasheet.ciiva.com/15047/bq24045-15047702.pdf?src-supplier=Digikey
footprint FP-1206-L_3_2_0_15-W_1_6-IPC_B
footprint FP-1206-L_3_2_0_15-W_1_6-MFG
footprint FP-1206-L_3_2_0_15-W_1_6-IPC_A
footprint FP-1206-L_3_2_0_15-W_1_6-IPC_C
footprint IC_BQ24045DSQR
pins: 1 IN (in), 2 ISET (in), 3 VSS (power), 4 PRE-TERM (in), 5 ~{PG} (out), 6 NC, 7 ISET2 (in), 8 ~{CHG} (out), 9 TS (in), 10 OUT (out), 11 EXP (power)

## U-CP2102N-A02-GQFN28
designator U?, comment CP2102N-A02-GQFN28
USB Bus Controller, CMOS; Manufacturer: Silicon Labs; Supplier 1: Digikey; Supplier Part Number 1: 336-5889-ND; Manufacturer Part Number: CP2102N-A02-GQFN28; RoHS: Yes; Category: USB Interface ICs; Stock: 1881; Pricing: 1=4.66, 10=4.183, 73=3.95411, 146=3.42692, 292=3.2512, 511=2.91728, 1022=2.46036, 2555=2.33734 (USD); ComponentLink1URL: https://datasheet.ciiva.com:443/pdfs/VipMasterIC/IC/SILC/SILC-S-A0007770867/SILC-S-A0007770867-1.pdf?src-supplier=IHS+Markit; ComponentLink1Description: https://datasheet.ciiva.com:443/pdfs/VipMasterIC/IC/SILC/SILC-S-A0007770867/SILC-S-A0007770867-1.pdf?src-supplier=IHS+Markit; ComponentLink2URL: https://4donline.ihs.com/images/VipMasterIC/IC/SILC/SILC-S-A0007770867/SILC-S-A0007770867-1.pdf?hkey=6D3A4C79FDBF58556ACFDE234799DDF0&src-supplier=Newark; ComponentLink2Description: https://4donline.ihs.com/images/VipMasterIC/IC/SILC/SILC-S-A0007770867/SILC-S-A0007770867-1.pdf?hkey=6D3A4C79FDBF58556ACFDE234799DDF0&src-supplier=Newark; ComponentLink3URL: https://4donline.ihs.com/images/VipMasterIC/IC/SILC/SILC-S-A0007770867/SILC-S-A0007770867-1.pdf?hkey=6D3A4C79FDBF58556ACFDE234799DDF0&src-supplier=Farnell; ComponentLink3Description: https://4donline.ihs.com/images/VipMasterIC/IC/SILC/SILC-S-A0007770867/SILC-S-A0007770867-1.pdf?hkey=6D3A4C79FDBF58556ACFDE234799DDF0&src-supplier=Farnell
footprint FP-1206-L_3_2_0_15-W_1_6-IPC_B
footprint FP-1206-L_3_2_0_15-W_1_6-MFG
footprint FP-1206-L_3_2_0_15-W_1_6-IPC_A
footprint FP-1206-L_3_2_0_15-W_1_6-IPC_C
footprint FP-CP2102N-A02-GQFN28-IPC_A
pins: 1 DCD (in), 2 ~{RI}/CLK (io), 3 GND (power), 4 D+, 5 D-, 6 VDD (power), 7 VREGIN (in), 8 VBUS (in), 9 ~{RST} (in), 10 NC, 11 ~{SUSPEND} (out), 12 SUSPEND (out), 13 CHREN (out), 14 CHR1 (out), 15 CHR0 (out), 16 GPIO.3/WAKEUP (io), 17 GPIO.2/RS485 (io), 18 GPIO.1/RXT (io), 19 GPIO.0/TXT (io), 20 GPIO.6 (io), 21 GPIO.5 (io), 22 GPIO.4 (io), 23 CTS (in), 24 RTS (out), 25 RXD (in), 26 TXD (out), 27 DSR (in), 28 DTR (out), 29 GND (power)

## U-ESP32-WROOM-32E-H4
designator U?, comment ESP32-WROOM-32E-H4
Rx Txrx Mod Wifi Trace Ant SMD; Manufacturer: Espressif Systems; Supplier 1: Digikey; Supplier Part Number 1: 1965-ESP32-WROOM-32E-H4CT-ND; Manufacturer Part Number: ESP32-WROOM-32E-H4; RoHS: No; Category: Uncategorized; Stock: 877; Pricing: 1=2.68 (USD)
footprint FP-1206-L_3_2_0_15-W_1_6-IPC_B
footprint FP-1206-L_3_2_0_15-W_1_6-MFG
footprint FP-1206-L_3_2_0_15-W_1_6-IPC_A
footprint FP-1206-L_3_2_0_15-W_1_6-IPC_C
footprint ESP32­WROOM­32E_EXP
pins: 1 GND (power), 2 3V3 (power), 3 EN (in), 4 SENSOR_VP (in), 5 SENSOR_VN (in), 6 IO34 (in), 7 IO35 (in), 8 IO32 (io), 9 IO33 (io), 10 IO25 (io), 11 IO26 (io), 12 IO27 (io), 13 IO14 (io), 14 IO12 (io), 15 GND (power), 16 IO13 (io), 17 NC, 18 NC, 19 NC, 20 NC, 21 NC, 22 NC, 23 IO15 (io), 24 IO2 (io), 25 IO0 (io), 26 IO4 (io), 27 IO16 (io), 28 IO17 (io), 29 IO5 (io), 30 IO18 (io), 31 IO19 (io), 32 NC, 33 IO21 (io), 34 RXD0 (io), 35 TXD0 (io), 36 IO22 (io), 37 IO23 (io), 38 GND (power), 39 GND (power), 40 GND (power), 41 GND (power), 42 GND (power), 43 GND (power), 44 GND (power), 45 GND (power), 46 GND (power), 47 GND (power)

## U-MAX38909ATD+
designator U?, comment MAX38909ATD+
IC Reg Lin Pos Prog 4A 14TDFN; Manufacturer: Analog Devices; Supplier 1: Mouser; Supplier Part Number 1: 700-MAX38909ATD+; Manufacturer Part Number: MAX38909ATD+; RoHS: No; Stock: 2276; Pricing: 1=5.13, 10=3.89, 50=3.89, 100=3.69, 1000=3.05, 10000=3.05 (USD)
footprint FP-1206-L_3_2_0_15-W_1_6-IPC_B
footprint FP-1206-L_3_2_0_15-W_1_6-MFG
footprint FP-1206-L_3_2_0_15-W_1_6-IPC_A
footprint FP-1206-L_3_2_0_15-W_1_6-IPC_C
footprint 21-0137I_T1433-2_MXM
pins: 1 IN (in), 2 IN (in), 3 IN (in), 4 IN (in), 5 BIAS (in), 6 EN, 7 GND (power), 8 POK (out), 9 FB (in), 10 BYP (in), 11 OUT (power), 12 OUT (power), 13 OUT (power), 14 OUT (power), 15 EPAD (power)

## U-MCP6071T-E/OT
designator U?, comment MCP6071T-E/OT  (value not drawn)
Operational Amplifier, 1 Func, 150uV Offset-Max, CMOS, PDSO5; Manufacturer: Microchip; Package Body Material: Plastic; Architecture: VOLTAGE-FEEDBACK; Average Bias Current-Max (IIB): 5nA; Bias Current-Max (IIB) @25C: 100pA; Common-mode Reject Ratio-Nom: 91dB; Frequency Compensation: YES; Number of Functions: 1; Package Equivalence Code: TSOP5/6,.11,37; Power Supplies: 2.5V; Slew Rate: 0.5V/µs; Max Supply Current: 170uA; Supply Voltage Limit-Max: 7V; Supply Voltage-Nom (Vsup): 3V; Time @ Peak Reflow Temperature-Max (s): 40s; Unity Gain BW-Nom: 1.2MHz; Voltage Gain-Min: 56200; Power: No; Qualification Status: Not Qualified; Supplier 1: Avnet; Supplier Part Number 1: 23T2818; Manufacturer Part Number: MCP6071T-E/OT; RoHS: Yes; Category: Amplifiers - Op Amps, Buffer, Instrumentation; Stock: 6; Pricing: 1=0.648 (USD); Package Code: LSSOP; Number of Pins: 5; Package Shape: Rectangular; Terminal Finish: Tin; Min Operating Temperature: -40°C; Max Operating Temperature: 125°C; JESD-609 Code: e3; Amplifier Type: OPERATIONAL AMPLIFIER; Input Offset Voltage-Max: 150uV; JESD-30 Code: R-PDSO-G5; Low-Bias: Yes; Low-Offset: Yes; Micropower: Yes; Moisture Sensitivity Level: 1; Package Style: SMALL OUTLINE, LOW PROFILE, SHRINK PITCHMeter; Packaging: Tape and Reel; Peak Reflow Temperature (Cel): 260°C; Surface Mount: Yes; Technology: CMOS; Terminal Form: Gull Wing; Terminal Position: DUAL; Programmable Power: No; Wideband: No; Length: 2.9mm; Width: 1.55mm; Height - Seated (Max): 1.45mm; Terminal Pitch: 0.95mm; Temperature Grade: AUTOMOTIVE; Reach SVHC Compliant: Yes; RoHS Compliant: Yes; ComponentLink1URL: https://datasheet.ciiva.com:443/pdfs/VipMasterIC/IC/MCHP/MCHPS03324/MCHPS03324-1.pdf?src-supplier=IHS+Markit; ComponentLink1Description: https://datasheet.ciiva.com:443/pdfs/VipMasterIC/IC/MCHP/MCHPS03324/MCHPS03324-1.pdf?src-supplier=IHS+Markit; ComponentLink2URL: https://datasheet.ciiva.com/4761/22142-b-mcp6071-52533-4761074.pdf?src-supplier=Mouser; ComponentLink2Description: https://datasheet.ciiva.com/4761/22142-b-mcp6071-52533-4761074.pdf?src-supplier=Mouser; ComponentLink3URL: https://datasheet.ciiva.com/8078/387987-8078837.pdf?src-supplier=Element14; ComponentLink3Description: https://datasheet.ciiva.com/8078/387987-8078837.pdf?src-supplier=Element14; ComponentLink4URL: https://datasheet.ciiva.com/1793/22142-b-mcp6071-1793444.pdf?src-supplier=Digikey; ComponentLink4Description: https://datasheet.ciiva.com/1793/22142-b-mcp6071-1793444.pdf?src-supplier=Digikey; ComponentLink5URL: https://datasheet.ciiva.com/1793/22142-b-mcp6071-1793445.pdf?src-supplier=Digikey; ComponentLink5Description: https://datasheet.ciiva.com/1793/22142-b-mcp6071-1793445.pdf?src-supplier=Digikey; ComponentLink6URL: https://datasheet.ciiva.com/1793/22142-b-mcp6071-1793446.pdf?src-supplier=Digikey; ComponentLink6Description: https://datasheet.ciiva.com/1793/22142-b-mcp6071-1793446.pdf?src-supplier=Digikey; ComponentLink7URL: https://datasheet.ciiva.com/16426/filehandler-aspxddocname-en540513-16426686.pdf?src-supplier=Future+Electronics; ComponentLink7Description: https://datasheet.ciiva.com/16426/filehandler-aspxddocname-en540513-16426686.pdf?src-supplier=Future+Electronics; ComponentLink8URL: https://datasheet.ciiva.com/26937/getdatasheetpartid-770193-26937739.pdf?src-supplier=Verical; ComponentLink8Description: https://datasheet.ciiva.com/26937/getdatasheetpartid-770193-26937739.pdf?src-supplier=Verical; ComponentLink9URL: https://datasheet.ciiva.com/22711/387987-22711943.pdf?src-supplier=Element14; ComponentLink9Description: https://datasheet.ciiva.com/22711/387987-22711943.pdf?src-supplier=Element14; ComponentLink10URL: https://datasheet.ciiva.com/28630/1062688-28630617.pdf?src-supplier=Element14; ComponentLink10Description: https://datasheet.ciiva.com/28630/1062688-28630617.pdf?src-supplier=Element14; ComponentLink11URL: https://datasheet.ciiva.com/14545/70048096-14545063.pdf?src-supplier=Allied+Electronics; ComponentLink11Description: https://datasheet.ciiva.com/14545/70048096-14545063.pdf?src-supplier=Allied+Electronics; ComponentLink12URL: https://datasheet.ciiva.com/41459/001084911-da-01-en-ic-opamp-r-r-mcp6071t-e-ot-sot-23-5-mcp-41459147.pdf?src-supplier=Conrad; ComponentLink12Description: https://datasheet.ciiva.com/41459/001084911-da-01-en-ic-opamp-r-r-mcp6071t-e-ot-sot-23-5-mcp-41459147.pdf?src-supplier=Conrad
footprint FP-1206-L_3_2_0_15-W_1_6-IPC_B
footprint FP-1206-L_3_2_0_15-W_1_6-MFG
footprint FP-1206-L_3_2_0_15-W_1_6-IPC_A
footprint FP-1206-L_3_2_0_15-W_1_6-IPC_C
footprint SOT95P270X145-5N
pins: 1 VOUT (out), 2 VSS, 3 VIN+ (in), 4 VIN- (in), 5 VDD
text: +; -

## U-REG71050DDCT
designator U?, comment REG71050DDCT
Switched Capacitor Converter, 0.06A, 1000kHz Switching Freq-Max, PDSO6; Manufacturer: Texas Instruments; Package Body Material: Plastic; Max Input Voltage: 5.5V; Min Input Voltage: 2.7V; Number of Functions: 1; Nominal Input Voltage: 3.25V; Nominal Output Voltage: 5V; Package Equivalence Code: TSOP6,.11,37; Switcher Configuration: DOUBLER INVERTER; Switching Frequency-Max: 1MHz; Qualification Status: Not Qualified; Supplier 1: Mouser; Supplier Part Number 1: 595-REG71050DDCT; Manufacturer Part Number: REG71050DDCT; RoHS: Yes; Category: Voltage Regulators - Switching; Stock: 228; Pricing: 1=1.6, 10=1.39, 50=1.39, 100=1.16, 1000=0.805, 10000=0.694 (USD); Package Code: TSSOP; Number of Pins: 6; Package Shape: Rectangular; Terminal Finish: Nickel; Min Operating Temperature: -40°C; Max Operating Temperature: 85°C; JESD-609 Code: e4; JESD-30 Code: R-PDSO-G6; Moisture Sensitivity Level: 1; Package Style: SMALL OUTLINE, THIN PROFILE, SHRINK PITCHMeter; Peak Reflow Temperature (Cel): 260°C; Surface Mount: Yes; Terminal Form: Gull Wing; Terminal Position: DUAL; Analog IC - Other Type: SWITCHED CAPACITOR CONVERTER; Length: 2.9mm; Width: 1.6mm; Height - Seated (Max): 1.1mm; Terminal Pitch: 0.95mm; Reach SVHC Compliant: Yes; RoHS Compliant: Yes; Temperature Grade: INDUSTRIAL; ComponentLink1URL: https://www.ti.com:443/lit/ds/symlink/reg710-25.pdf?src-supplier=IHS+Markit; ComponentLink1Description: https://www.ti.com:443/lit/ds/symlink/reg710-25.pdf?src-supplier=IHS+Markit; ComponentLink2URL: https://datasheet.ciiva.com/22669/1716593-22669509.pdf?src-supplier=Element14; ComponentLink2Description: https://datasheet.ciiva.com/22669/1716593-22669509.pdf?src-supplier=Element14; ComponentLink3URL: https://datasheet.ciiva.com/15114/getdatasheetpartid-294612-15114101.pdf?src-supplier=Verical; ComponentLink3Description: https://datasheet.ciiva.com/15114/getdatasheetpartid-294612-15114101.pdf?src-supplier=Verical; ComponentLink4URL: https://datasheet.ciiva.com/41462/001014487-da-01-en-ic-reg-multi-c-reg71050ddct-sot-23-6-tid-41462341.pdf?src-supplier=Conrad; ComponentLink4Description: https://datasheet.ciiva.com/41462/001014487-da-01-en-ic-reg-multi-c-reg71050ddct-sot-23-6-tid-41462341.pdf?src-supplier=Conrad; ComponentLink5URL: https://datasheet.ciiva.com/2029/reg71050-2029349.pdf?src-supplier=Digikey; ComponentLink5Description: https://datasheet.ciiva.com/2029/reg71050-2029349.pdf?src-supplier=Digikey; ComponentLink6URL: https://datasheet.ciiva.com/2029/reg71050-2029348.pdf?src-supplier=Digikey; ComponentLink6Description: https://datasheet.ciiva.com/2029/reg71050-2029348.pdf?src-supplier=Digikey; ComponentLink7URL: https://datasheet.ciiva.com/2029/reg71050-2029350.pdf?src-supplier=Digikey; ComponentLink7Description: https://datasheet.ciiva.com/2029/reg71050-2029350.pdf?src-supplier=Digikey; ComponentLink8URL: https://datasheet.ciiva.com/3216/reg71050-3216238.pdf?src-supplier=Avnet; ComponentLink8Description: https://datasheet.ciiva.com/3216/reg71050-3216238.pdf?src-supplier=Avnet
footprint FP-1206-L_3_2_0_15-W_1_6-IPC_B
footprint FP-1206-L_3_2_0_15-W_1_6-MFG
footprint FP-1206-L_3_2_0_15-W_1_6-IPC_A
footprint FP-1206-L_3_2_0_15-W_1_6-IPC_C
footprint SOT95P280X110-6N
pins: 1 VOUT (out), 2 GND (power), 3 ENABLE (in), 4 CPUMP- (in), 5 VIN (in), 6 CPUMP+ (in)